# EAGLE library part IN-2 (library Nixie)
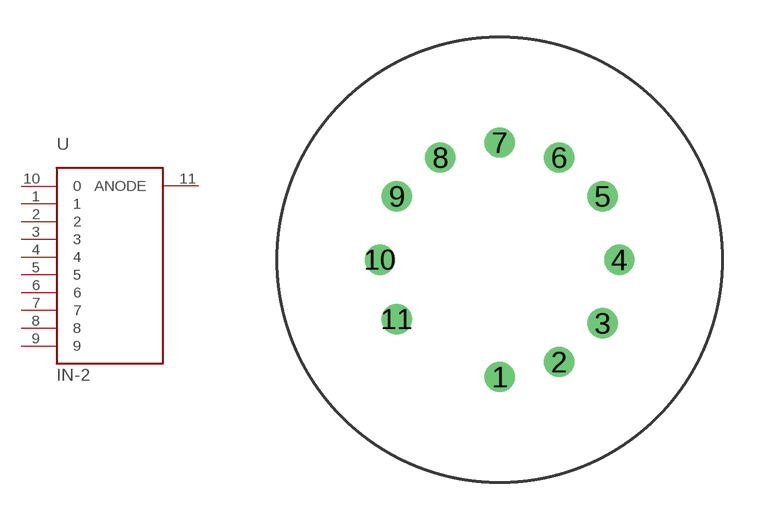
[diagram p2: symbol with the pads of IN-2-PINS; footprint IN-2-PINS]

Designator prefix -

## IN-2  [IN-2-PINS]
1  1
2  2
3  3
4  4
5  5
6  6
7  7
8  8
9  9
10  0
11  ANODE

## Footprint IN-2-PINS (pad centres in mm)
drill 0.7: 1 0,-4.686; 2 2.375,-4.089; 3 4.115,-2.54; 4 4.788,0; 5 4.115,2.54; 6 2.375,4.089; 7 0,4.686; 8 -2.375,4.089; 9 -4.115,2.54; 10 -4.788,0; 11 -4.115,-2.375